# Altium schematic symbol library LD034C222KAB2A.SchLib: 1 symbol
Pins are listed as number, name and electrical type; pins without a type are passive.

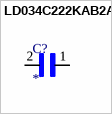
[diagram p0: symbol LD034C222KAB2A]

## LD034C222KAB2A
designator C?
Cap Ceramic 0.0022uF 4V X7R 10% SMD 0603 125Â°C T/R; MP: LD034C222KAB2A; MF: {'manufacturer': u'AVX'}; Price: None; Availability: Unavailable; Value: *; Package: None
footprint CAPC1608X90
pins: 1, 2